# EAGLE library part TMP411 (library template_board)
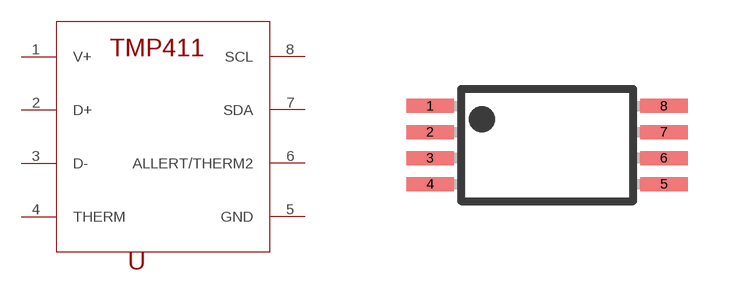
[diagram p22: symbol with the pads of TSSOP-8; footprint TSSOP-8]

Designator prefix -

## TMP411  [TSSOP-8]
1  V+
2  D+
3  D-
4  THERM
5  GND
6  ALLERT/THERM2
7  SDA
8  SCL

## Footprint TSSOP-8 (pad centres in mm)
smd 1.2 x 0.35: 1 -4.175,1.725; 2 -4.175,1.075; 3 -4.175,0.425; 4 -4.175,-0.225; 5 1.675,-0.225; 6 1.675,0.425; 7 1.675,1.075; 8 1.675,1.725